# EAGLE library part 74AC11244 (library 74ac-logic)
Octal BUFFER/DRIVER
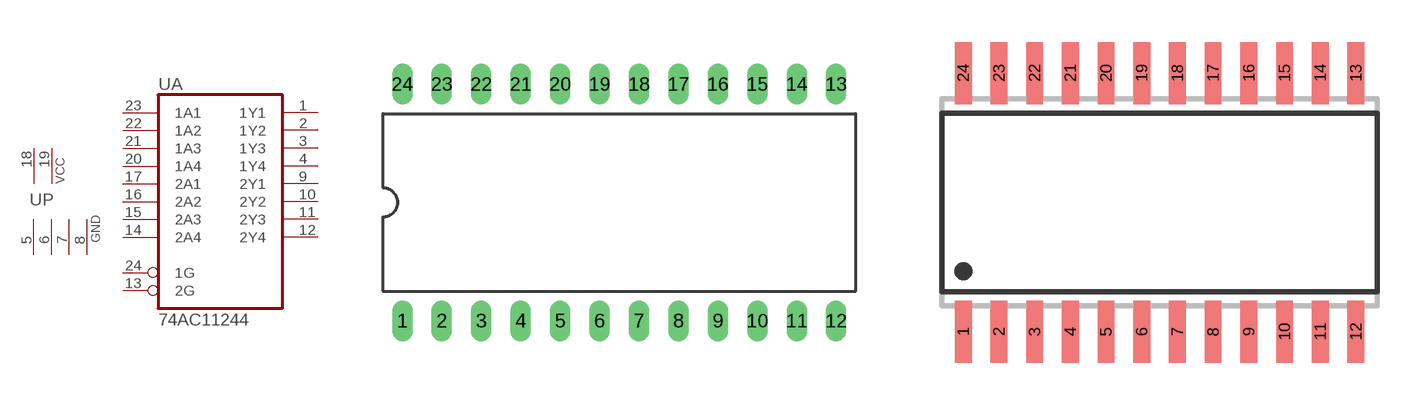
[diagram p32: symbol with the pads of DIL24-6; footprints DIL24-6, SO24W]

Designator prefix U; gates A=7411244 P=2PWR4GND

## 74AC11244  [DIL24-6]
1  A:1Y1  hiz
2  A:1Y2  hiz
3  A:1Y3  hiz
4  A:1Y4  hiz
5  P:GND  pwr
6  P:GND  pwr
7  P:GND  pwr
8  P:GND  pwr
9  A:2Y1  hiz
10  A:2Y2  hiz
11  A:2Y3  hiz
12  A:2Y4  hiz
13  A:2G  in
14  A:2A4  in
15  A:2A3  in
16  A:2A2  in
17  A:2A1  in
18  P:VCC  pwr
19  P:VCC  pwr
20  A:1A4  in
21  A:1A3  in
22  A:1A2  in
23  A:1A1  in
24  A:1G  in

## 74AC11244D  [SO24W]
Pads as for DIL24-6

## Footprint DIL24-6 (pad centres in mm)
Dual In Line Package 0.6 inch
drill 0.813 long: 1 -13.97,-7.62; 2 -11.43,-7.62; 3 -8.89,-7.62; 4 -6.35,-7.62; 5 -3.81,-7.62; 6 -1.27,-7.62; 7 1.27,-7.62; 8 3.81,-7.62; 9 6.35,-7.62; 10 8.89,-7.62; 11 11.43,-7.62; 12 13.97,-7.62; 13 13.97,7.62; 14 11.43,7.62; 15 8.89,7.62; 16 6.35,7.62; 17 3.81,7.62; 18 1.27,7.62; 19 -1.27,7.62; 20 -3.81,7.62; 21 -6.35,7.62; 22 -8.89,7.62; 23 -11.43,7.62; 24 -13.97,7.62

## Footprint SO24W (pad centres in mm)
SMALL OUTLINE INTEGRATED CIRCUIT wide body 7.5 mm/JEDEC MO-119AA
smd 0.6 x 2.2: 1 -6.985,-4.6; 2 -5.715,-4.6; 3 -4.445,-4.6; 4 -3.175,-4.6; 5 -1.905,-4.6; 6 -0.635,-4.6; 7 0.635,-4.6; 8 1.905,-4.6; 9 3.175,-4.6; 10 4.445,-4.6; 11 5.715,-4.6; 12 6.985,-4.6; 13 6.985,4.6; 14 5.715,4.6; 15 4.445,4.6; 16 3.175,4.6; 17 1.905,4.6; 18 0.635,4.6; 19 -0.635,4.6; 20 -1.905,4.6; 21 -3.175,4.6; 22 -4.445,4.6; 23 -5.715,4.6; 24 -6.985,4.6